# EAGLE library part AP65251 (library dword1511-pmic-dcdc)
2A, 16V, 500KHz Adaptive Constant ON Time Synchronous Buck Converter
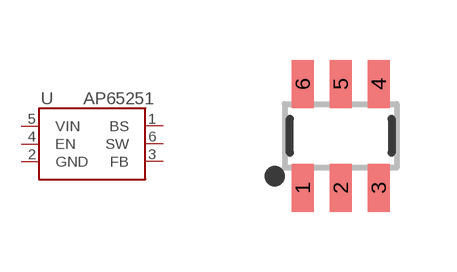
[diagram p27: symbol with the pads of SOT-23-6; footprint SOT-23-6]

Designator prefix U

## AP65251WU  [SOT-23-6]
1  BS  out
2  GND  pwr
3  FB  in
4  EN  in
5  VIN  pwr
6  SW  out

## Footprint SOT-23-6 (pad centres in mm)
smd 0.55 x 1.2: 1 -0.95,-1.3; 2 0,-1.3; 3 0.95,-1.3; 4 0.95,1.3; 5 0,1.3; 6 -0.95,1.3